# Altium schematic symbol library 常用原件库.SchLib: 69 symbols
Pins are listed as number, name and electrical type; pins without a type are passive.

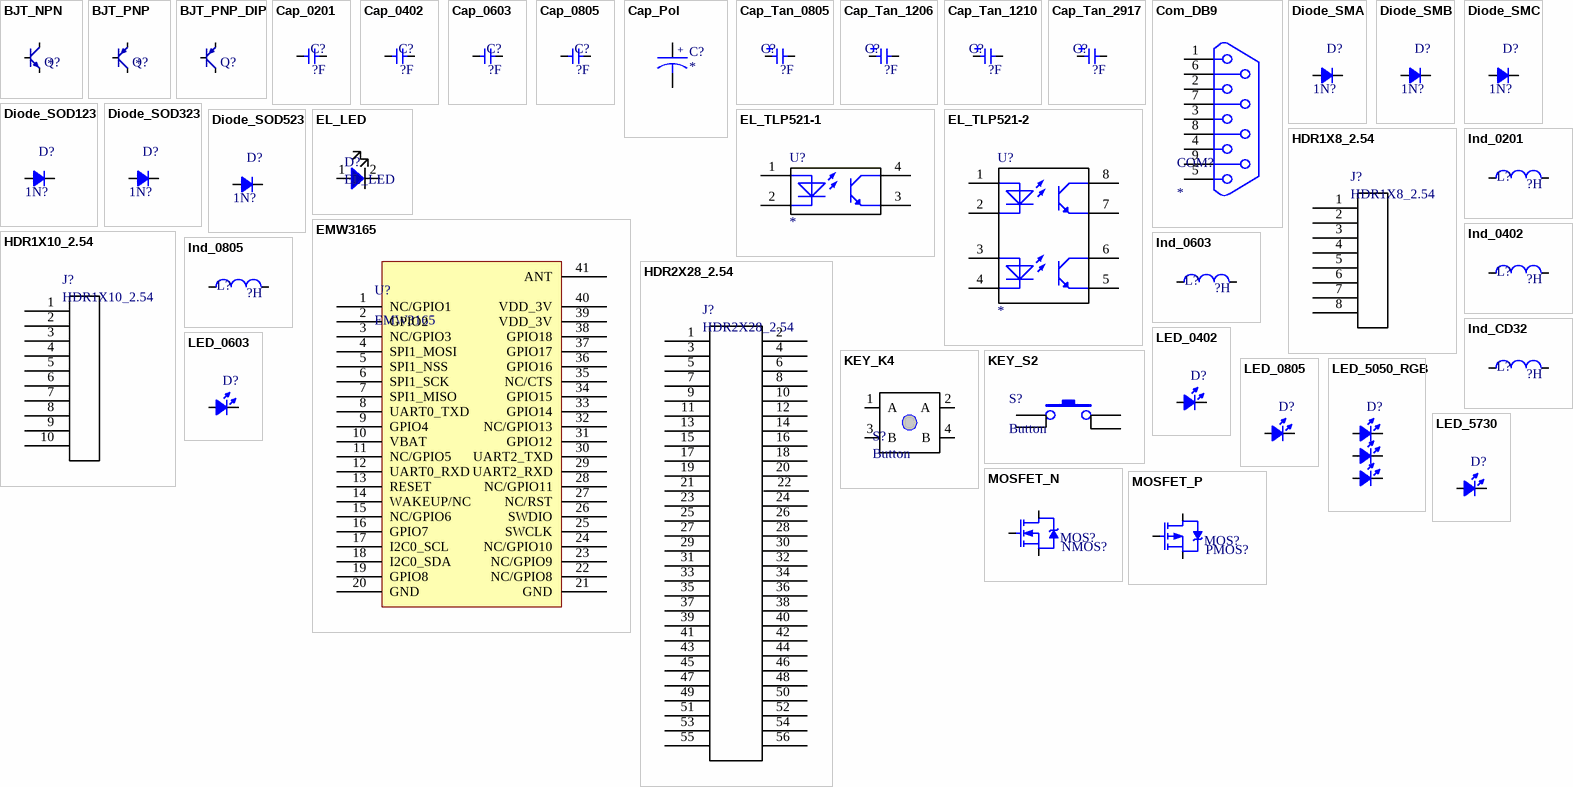
[diagram p0: symbols BJT_NPN to MOSFET_P]

## BJT_NPN
designator Q?  (value not drawn)
Transistor; Value: *
footprint SOT23-3
pins: 1 B, 2 E, 3 C

## BJT_PNP
designator Q?  (value not drawn)
Transistor; Value: *
footprint SOT23-3
pins: 1 B, 2 E, 3 C

## BJT_PNP_DIP
designator Q?  (value not drawn)
Transistor
footprint TO-92_HDR
pins: 1 E, 2 B, 3 C

## Cap_0201
designator C?  value ?F  (hidden comment: Cap_0201)
Capacitor
footprint Cap_0201
pins: 1, 2

## Cap_0402
designator C?  value ?F  (hidden comment: Cap_0402)
Capacitor
footprint CAP_0402
pins: 1, 2

## Cap_0603
designator C?  value ?F  (hidden comment: Cap_0603)
Capacitor
footprint CAP_0603
pins: 1, 2

## Cap_0805
designator C?  value ?F  (hidden comment: Cap_0805)
Capacitor
footprint CAP_0805
pins: 1, 2

## Cap_Pol
designator C?
Capacitor
footprint Cap_Pol_F5 (Cap F5)
footprint Cap_Pol_F6 (Cap F5)
pins: 1, 2
text: +

## Cap_Tan_0805
designator C?  value ?F  (hidden comment: Cap_Tan_0805)
Capacitor
footprint CAP_TAN_P0805
pins: 1, 2
1 alternate drawing of the same symbol

## Cap_Tan_1206
designator C?  value ?F  (hidden comment: Cap_Tan_1206)
Capacitor
footprint CAP_TAN_A1206
pins: 1, 2
1 alternate drawing of the same symbol

## Cap_Tan_1210
designator C?  value ?F  (hidden comment: Cap_Tan_1210)
Capacitor
footprint CAP_TAN_B1210
pins: 1, 2
1 alternate drawing of the same symbol

## Cap_Tan_2917
designator C?  value ?F  (hidden comment: Cap_Tan_2917)
Capacitor
footprint CAP_TAN_D2917
pins: 1, 2
1 alternate drawing of the same symbol

## Com_DB9
designator COM?
串口母头
footprint DB9
pins: 1, 2, 3, 4, 5, 6, 7, 8, 9

## Diode_SMA
designator D?  value 1N?  (hidden comment: Diode_SMA)
Diode
footprint DIODE_DO-214AC (SMA)
pins: 1 A, 2 K

## Diode_SMB
designator D?  value 1N?  (hidden comment: Diode_SMB)
Diode
footprint DIODE_DO-214AA (SMB)
pins: 1 A, 2 K

## Diode_SMC
designator D?  value 1N?  (hidden comment: Diode_SMC)
Diode
footprint DIODE_DO-214AB (SMC)
pins: 1 A, 2 K

## Diode_SOD123
designator D?  value 1N?  (hidden comment: Diode_SOD123)
Diode
pins: 1 A, 2 K

## Diode_SOD323
designator D?  value 1N?  (hidden comment: Diode_SOD323)
Diode
footprint SOD323 (SOD-323; 2 Leads; Body 1.8 x 1.35 mm, (LxW))
pins: 1 A, 2 K

## Diode_SOD523
designator D?  value 1N?  (hidden comment: Diode_SOD523)
Diode
pins: 1 A, 2 K

## EL_LED
designator D?
LED
footprint LED-F5 (LED F5 草帽灯)
pins: 1 "My Pad", 2 "My Pad"

## EL_TLP521-1
designator U?
单路光耦
footprint DIP-4N
pins: 1, 2, 3, 4

## EL_TLP521-2
designator U?
双路光耦
footprint DIP-8N
pins: 1, 2, 3, 4, 5, 6, 7, 8

## EMW3165
designator U?
WIFI 模块
footprint EMW3165 (EMW365 wifi 模块)
pins: 1 NC/GPIO1, 2 GPIO2, 3 NC/GPIO3, 4 SPI1_MOSI, 5 SPI1_NSS, 6 SPI1_SCK, 7 SPI1_MISO, 8 UART0_TXD, 9 GPIO4, 10 VBAT, 11 NC/GPIO5, 12 UART0_RXD, 13 RESET, 14 WAKEUP/NC, 15 NC/GPIO6, 16 GPIO7, 17 I2C0_SCL, 18 I2C0_SDA, 19 GPIO8, 20 GND, 21 GND, 22 NC/GPIO8, 23 NC/GPIO9, 24 NC/GPIO10, 25 SWCLK, 26 SWDIO, 27 NC/RST, 28 NC/GPIO11, 29 UART2_RXD, 30 UART2_TXD, 31 GPIO12, 32 NC/GPIO13, 33 GPIO14, 34 GPIO15, 35 NC/CTS, 36 GPIO16, 37 GPIO17, 38 GPIO18, 39 VDD_3V, 40 VDD_3V, 41 ANT

## HDR1X8_2.54
designator J?
footprint HDR1X8_2.54_180
pins: 1 "My Pad", 2 "My Pad", 3 "My Pad", 4 "My Pad", 5 "My Pad", 6 "My Pad", 7 "My Pad", 8 "My Pad"

## HDR1X10_2.54
designator J?
footprint HDR1X10_2.54_180
pins: 1 "My Pad", 2 "My Pad", 3 "My Pad", 4 "My Pad", 5 "My Pad", 6 "My Pad", 7 "My Pad", 8 "My Pad", 9, 10

## HDR2X28_2.54
designator J?
footprint HDR2X28_2.54
pins: 1 "My Pad", 2 "My Pad", 3 "My Pad", 4 "My Pad", 5 "My Pad", 6 "My Pad", 7 "My Pad", 8 "My Pad", 9 "My Pad", 10 "My Pad", 11 "My Pad", 12 "My Pad", 13 "My Pad", 14 "My Pad", 15 "My Pad", 16 "My Pad", 17 "My Pad", 18 "My Pad", 19 "My Pad", 20 "My Pad", 21, 22, 23, 24, 25, 26, 27, 28, 29, 30, 31, 32, 33, 34, 35, 36, 37, 38, 39, 40, 41, 42, 43, 44, 45, 46, 47, 48, 49, 50, 51, 52, 53, 54, 55, 56

## Ind_0201
designator L?  value ?H  (hidden comment: Ind_0201)
Inductor
footprint IND_0201
pins: 1, 2

## Ind_0402
designator L?  value ?H  (hidden comment: Ind_0402)
Inductor
footprint IND_0402
pins: 1, 2

## Ind_0603
designator L?  value ?H  (hidden comment: Ind_0603)
Inductor
footprint IND_0603
pins: 1, 2

## Ind_0805
designator L?  value ?H  (hidden comment: Ind_0805)
Inductor
footprint IND_0805
pins: 1, 2

## Ind_CD32
designator L?  value ?H  (hidden comment: Ind_CD32)
Inductor
footprint IND_CD32
pins: 1, 2

## KEY_K4
designator S?, comment Button
四脚按键
footprint My_Button (My Botton 4 pins)
pins: 1 A "My Pad", 2 A "My Pad", 3 B "My Pad", 4 B "My Pad"

## KEY_S2
designator S?, comment Button
二脚按键
footprint Button (Button with 4 pins)
pins: 1, 2, 3, 4

## LED_0402
designator D?  (value not drawn)
LED
footprint LED_0402_RED
footprint LED_0402_BLUE
footprint LED_0402_ORANGE
footprint LED_0402_YELLOW
footprint LED_0402_GREEN
pins: 1 A, 2 K

## LED_0603
designator D?  (value not drawn)
LED
footprint LED_0603_GREEN
footprint LED_0603_BLUE
footprint LED_0603_RED
footprint LED_0603_ORANGE
footprint LED_0603_YELLOW
pins: 1 A, 2 K

## LED_0805
designator D?  (value not drawn)
LED
footprint LED_0805_RED
footprint LED_1206_BLUE
pins: 1 A, 2 K

## LED_5050_RGB
designator D?  (value not drawn)
LED
footprint LED_5050_RGB
pins: 1 K, 2 K, 3 K, 4 A, 5 A, 6 A

## LED_5730
designator D?  (value not drawn)
LED
footprint LED_5730_WHITE
pins: 1 A, 2 K

## MOSFET_N
designator MOS?  value NMOS?  (hidden comment: MOSFET_N)
MOSFET
footprint TO-252AA
pins: 1 G, 3 S, 4 D

## MOSFET_P
designator MOS?  value PMOS?  (hidden comment: MOSFET_P)
MOSFET
pins: 1 G, 2 D, 3 S

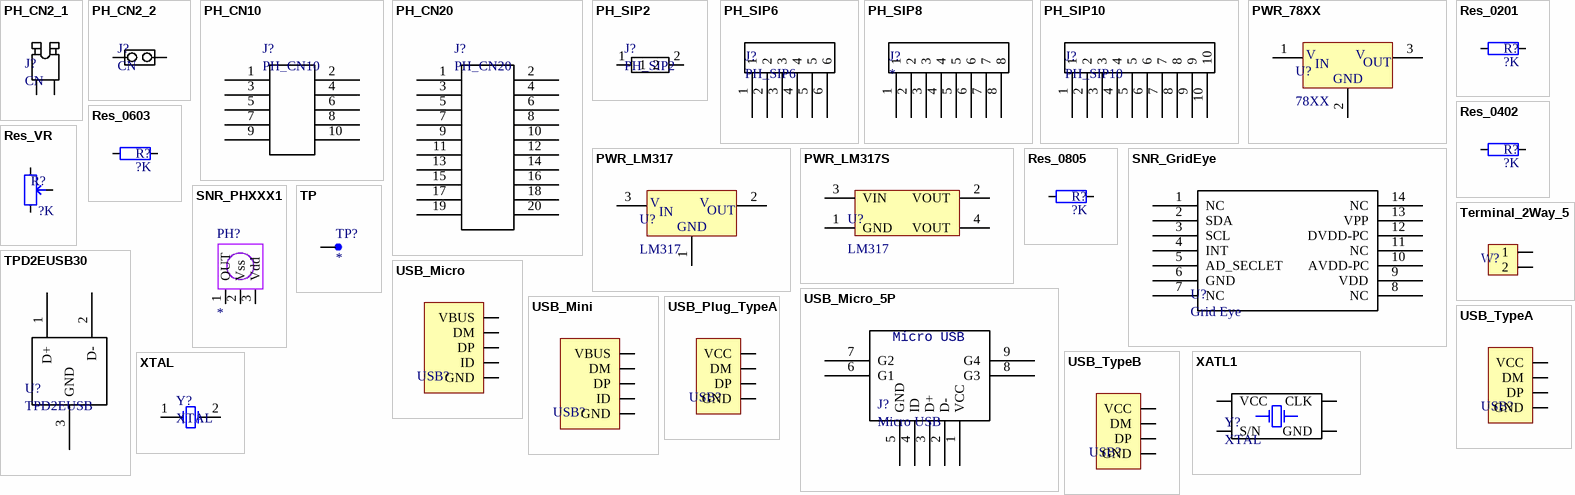
[diagram p1: symbols PH_CN2_1 to XTAL]

## PH_CN2_1
designator J?, comment CN
跳帽
footprint CN2 (Header 2 X 1)
pins: 1 "My Pad", 2 "My Pad"

## PH_CN2_2
designator J?, comment CN
跳帽
footprint CN2 (Header 2 X 1)
pins: 1 "My Pad", 2 "My Pad"

## PH_CN10
designator J?
5 X 2
footprint CN10 (Header 5 X 2)
pins: 1 "My Pad", 2 "My Pad", 3 "My Pad", 4 "My Pad", 5 "My Pad", 6 "My Pad", 7 "My Pad", 8 "My Pad", 9 "My Pad", 10 "My Pad"

## PH_CN20
designator J?
10 X 2
footprint CN20
pins: 1 "My Pad", 2 "My Pad", 3 "My Pad", 4 "My Pad", 5 "My Pad", 6 "My Pad", 7 "My Pad", 8 "My Pad", 9 "My Pad", 10 "My Pad", 11 "My Pad", 12 "My Pad", 13 "My Pad", 14 "My Pad", 15 "My Pad", 16 "My Pad", 17 "My Pad", 18 "My Pad", 19 "My Pad", 20 "My Pad"

## PH_SIP2
designator J?
SIP2
footprint SIP2
pins: 1 "My Pad", 2 "My Pad"

## PH_SIP6
designator J?
SIP6
footprint SIP6
pins: 1 "My Pad", 2 "My Pad", 3 "My Pad", 4 "My Pad", 5 "My Pad", 6 "My Pad"

## PH_SIP8
designator J?
SIP8
footprint SIP8
pins: 1 "My Pad", 2 "My Pad", 3 "My Pad", 4 "My Pad", 5 "My Pad", 6 "My Pad", 7 "My Pad", 8 "My Pad"

## PH_SIP10
designator J?
SIP10
footprint SIP10
pins: 1 "My Pad", 2 "My Pad", 3 "My Pad", 4 "My Pad", 5 "My Pad", 6 "My Pad", 7 "My Pad", 8 "My Pad", 9 "My Pad", 10 "My Pad"

## PWR_78XX
designator U?, comment 78XX
78XX 系列稳压芯片
footprint 78XX (78 系列的稳压片)
footprint TO-220
pins: 1 VIN, 2 GND, 3 VOUT
text: V; IN; OUT

## PWR_LM317
designator U?, comment LM317
LM317 电源芯片
footprint 78XX (78 系列的稳压片)
footprint TO-220
pins: 1 GND, 2 VOUT, 3 VIN
text: V; IN; OUT

## PWR_LM317S
designator U?, comment LM317
LM317 电源芯片
footprint lm1117
pins: 1 GND, 2 VOUT, 3 VIN, 4 VOUT

## Res_0201
designator R?  value ?K  (hidden comment: Res_0201)
Resistor
footprint Res_0201
pins: 1, 2

## Res_0402
designator R?  value ?K  (hidden comment: Res_0402)
Resistor
footprint RES_0402
pins: 1, 2

## Res_0603
designator R?  value ?K  (hidden comment: Res_0603)
Resistor
footprint RES_0603
pins: 1, 2

## Res_0805
designator R?  value ?K  (hidden comment: Res_0805)
Resistor
footprint RES_0805
pins: 1, 2

## Res_VR
designator R?  value ?K  (hidden comment: Res_VR)
Resistor
footprint RES_VR3296
footprint RES_VR3296-1
pins: 1, 2, 3

## SNR_GridEye
designator U?, comment Grid Eye
红外阵列传感器
footprint Grid_Eye_Sensor (Grid Eye Sensor)
pins: 1 NC "My Pad", 2 SDA "My Pad", 3 SCL "My Pad", 4 INT "My Pad", 5 AD_SECLET "My Pad", 6 GND "My Pad", 7 NC "My Pad", 8 NC "My Pad", 9 VDD "My Pad", 10 AVDD-PC "My Pad", 11 NC "My Pad", 12 DVDD-PC "My Pad", 13 VPP "My Pad", 14 NC "My Pad"

## SNR_PHXXX1
designator PH?
湿度传感器
footprint TO-220
pins: 1 OUT, 2 Vss, 3 Vdd

## Terminal_2Way_5
designator W?  (value not drawn)
DB
footprint 2Way_5
pins: 1, 2

## TP
designator TP?
footprint TEST (TEST Pad)
footprint MARK
pins: 1

## TPD2EUSB30
designator U?, comment TPD2EUSB
TPD2EUSB30
footprint TPDEUSB30
pins: 1 D+ "My Pad", 2 D- "My Pad", 3 GND "My Pad"

## USB_Micro
designator USB?  (value not drawn)
USB
footprint USB_Micro-AB
footprint USB_Micro-B
pins: 1 VBUS, 2 DM, 3 DP, 4 ID, 5 GND

## USB_Micro_5P
designator J?, comment Micro USB
Micro USB 5P
footprint Micro USB (Micro USB 5p)
pins: 1 VCC "My Pad", 2 D- "My Pad", 3 D+ "My Pad", 4 ID "My Pad", 5 GND "My Pad", 6 G1 "My Pad", 7 G2 "My Pad", 8 G3 "My Pad", 9 G4 "My Pad"

## USB_Mini
designator USB?  (value not drawn)
USB
footprint USB_MINI-B
pins: 1 VBUS, 2 DM, 3 DP, 4 ID, 5 GND

## USB_Plug_TypeA
designator USB?  (value not drawn)
USB
footprint USB_Plug_TypeA_PCB
footprint USB_Plug_TypeA
pins: 1 VCC, 2 DM, 3 DP, 4 GND

## USB_TypeA
designator USB?  (value not drawn)
USB
footprint USB_TypeA
pins: 1 VCC, 2 DM, 3 DP, 4 GND

## USB_TypeB
designator USB?  (value not drawn)
USB
footprint USB_TypeB
pins: 1 VCC, 2 DM, 3 DP, 4 GND

## XATL1
designator Y?, comment XTAL
footprint XT_XTAL1 (XTAL1)
pins: 1 S/N, 2 GND, 3 CLK, 4 VCC

## XTAL
designator Y?
footprint XT_XTAL_32K (XTAL_32K)
footprint XT_HC49S_D
footprint XT-TC15_B
pins: 1, 2